# Altium schematic symbol library SCH - POWER - LINEAR VREG - Microchip MIC47100YMME.Schlib: 1 symbol
Pins are listed as number, name and electrical type; pins without a type are passive.

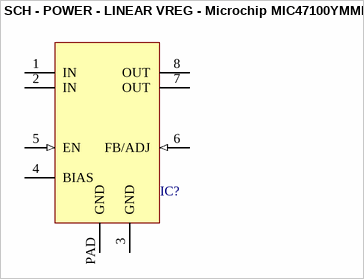
[diagram p0: symbol SCH - POWER - LINEAR VREG - Microchip MIC47100YMME]

## SCH - POWER - LINEAR VREG - Microchip MIC47100YMME
designator IC?
footprint 8-Pin e-MSOP (MME)
pins: 1 IN (power), 2 IN (power), 3 GND (power), 4 BIAS (power), 5 EN (in), 6 FB/ADJ (in), 7 OUT, 8 OUT, PAD GND (power)